# Altium schematic symbol library SourceOptode.SchLib: 2 symbols
Pins are listed as number, name and electrical type; pins without a type are passive.

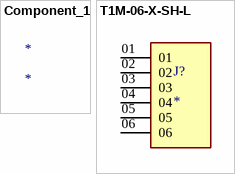
[diagram p0: symbols Component_1 to T1M-06-X-SH-L]

## Component_1
designator *

## T1M-06-X-SH-L
designator J?
Connector Header Surface Mount, Right Angle 6 position 0.039" (1.00mm); MF: Samtec; MP: T1M-06-X-SH-L; Availability: Unavailable; Value: *; Price: None; Package: None
footprint SAMTEC_T1M-06-X-SH-L
pins: 01, 02, 03, 04, 05, 06